# Altium footprint library SnapEDApcb.PcbLib: 1 footprints
Each footprint in its own frame and in the unit in brackets; x right, y up, seen from the top. Pads: shape width x height; smd on the part's side, far side on the other; paste and mask are expansions set on the pad; w line width, h text height; cw(c..) or ccw(c..) is an arc to the next point about the centre after c.
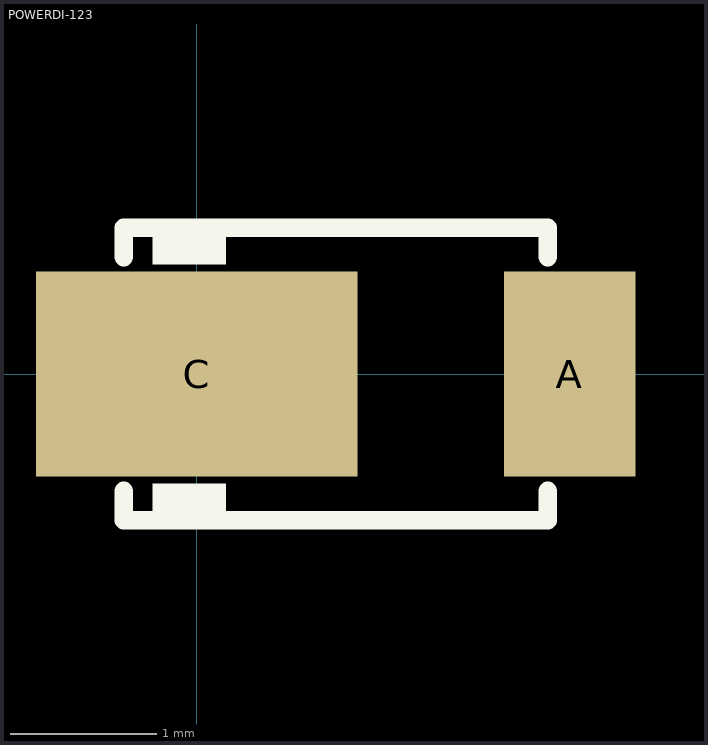
[diagram p0: the footprint, top view; thin cyan lines are the x and y axes]

## POWERDI-123 [mm]
pads (2):
  rect 0.9x1.4 smd: A(2.55,0)
  rect 2.2x1.4 smd: C(0,0)
Top Overlay:
  region: 0.2,0.751 -0.3,0.751 -0.3,1 0.2,1
  region: 0.2,-1.001 -0.3,-1.001 -0.3,-0.75 0.2,-0.75
  lines w0.127: -0.5,-0.8 -0.5,-1 2.4,-1 2.4,-0.8 ; -0.5,0.8 -0.5,1 2.4,1 2.4,0.8